# Altium schematic symbol library bjts.SchLib: 2 symbols
Pins are listed as number, name and electrical type; pins without a type are passive.

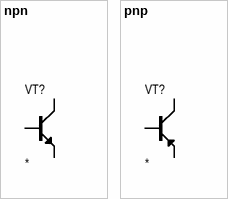
[diagram p0: symbols npn to pnp]

## npn
designator VT?
pins: B, C, E

## pnp
designator VT?
pins: B, C, E